# EAGLE library part SQJ147ELP-T1_GE3 (library transistor-vishay-pchan-pso8)
MOSFET P-CHANNEL 40-V (D-S) 175C MOSFET Source: Datasheet <https://www.vishay.com/docs/77857/sqj147elp.pdf>
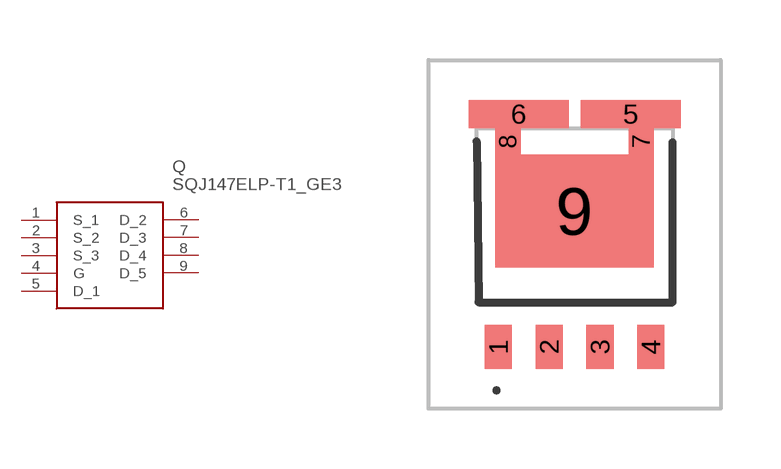
[diagram p0: symbol with the pads of SQJ147ELPT1_GE3; footprint SQJ147ELPT1_GE3]

Designator prefix Q

## SQJ147ELP-T1_GE3 (Description: MOSFET P-CHANNEL 40-V (D-S) 175C MOSFET; Height: 1.227mm; Manufacturer_Name: Vishay; Manufacturer_Part_Number: SQJ147ELP-T1_GE3; Mouser_Part_Number: 78-SQJ147ELP-T1_GE3; Mouser_Price-Stock: https://www.mouser.co.uk/ProductDetail/Vishay-Siliconix/SQJ147ELP-T1_GE3?qs=81r%252BiQLm7BRdyhBg3DuaKw%3D%3D)  [SQJ147ELPT1_GE3]
1  S_1
2  S_2
3  S_3
4  G
5  D_1
6  D_2
7  D_3
8  D_4
9  D_5

## Footprint SQJ147ELPT1_GE3 (pad centres in mm)
PowerPAK® SO-8L Case Outline 3
smd 0.68 x 1.1: 1 -1.905,-2.913; 2 -0.635,-2.913; 3 0.635,-2.913; 4 1.905,-2.913
smd 2.5 x 0.71: 5 1.4,2.913; 6 -1.4,2.913
smd 0.63 x 0.66: 7 1.665,2.228; 8 -1.665,2.228
smd 3.96 x 2.82: 9 0,0.487